# EAGLE library part CC2D33S (library GE)
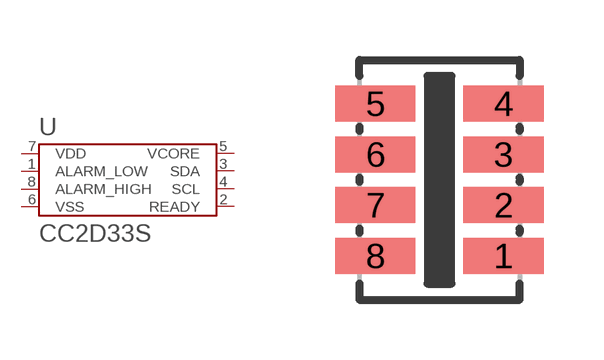
[diagram p0: symbol with the pads of CC2D33S; footprint CC2D33S]

Designator prefix U

## CC2D33S  [CC2D33S]
1  ALARM_LOW
2  READY
3  SDA
4  SCL
5  VCORE
6  VSS
7  VDD
8  ALARM_HIGH

## Footprint CC2D33S (pad centres in mm)
smd 2 x 0.9: 1 1.6,-1.905; 2 1.6,-0.635; 3 1.6,0.635; 4 1.6,1.905; 5 -1.6,1.905; 6 -1.6,0.635; 7 -1.6,-0.635; 8 -1.6,-1.905